# EAGLE library part SPRING2X3_PAD (library molex-spring)
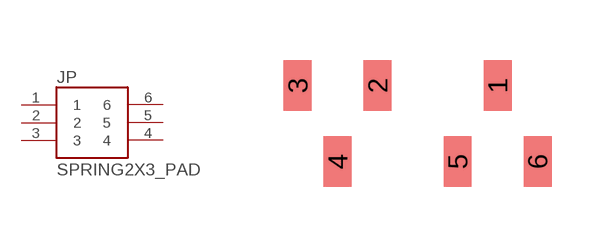
[diagram p3: symbol with the pads of 2X3_PADS; footprint 2X3_PADS]

Designator prefix JP

## SPRING2X3_PAD  [2X3_PADS]
1  1
2  2
3  3
4  4
5  5
6  6

## Footprint 2X3_PADS (pad centres in mm)
smd 0.7 x 1.27: 1 2,0.93; 2 -1,0.93; 3 -3,0.93; 4 -2,-0.97; 5 1,-0.97; 6 3,-0.97